# Altium footprint library Mechanical_Connectors_Terminal_Pluggable_Screw_3.81_Board_TH.PcbLib: 12 footprints
Each footprint in its own frame and in the unit in brackets; x right, y up, seen from the top. Pads: shape width x height; smd on the part's side, far side on the other; paste and mask are expansions set on the pad; w line width, h text height; cw(c..) or ccw(c..) is an arc to the next point about the centre after c.
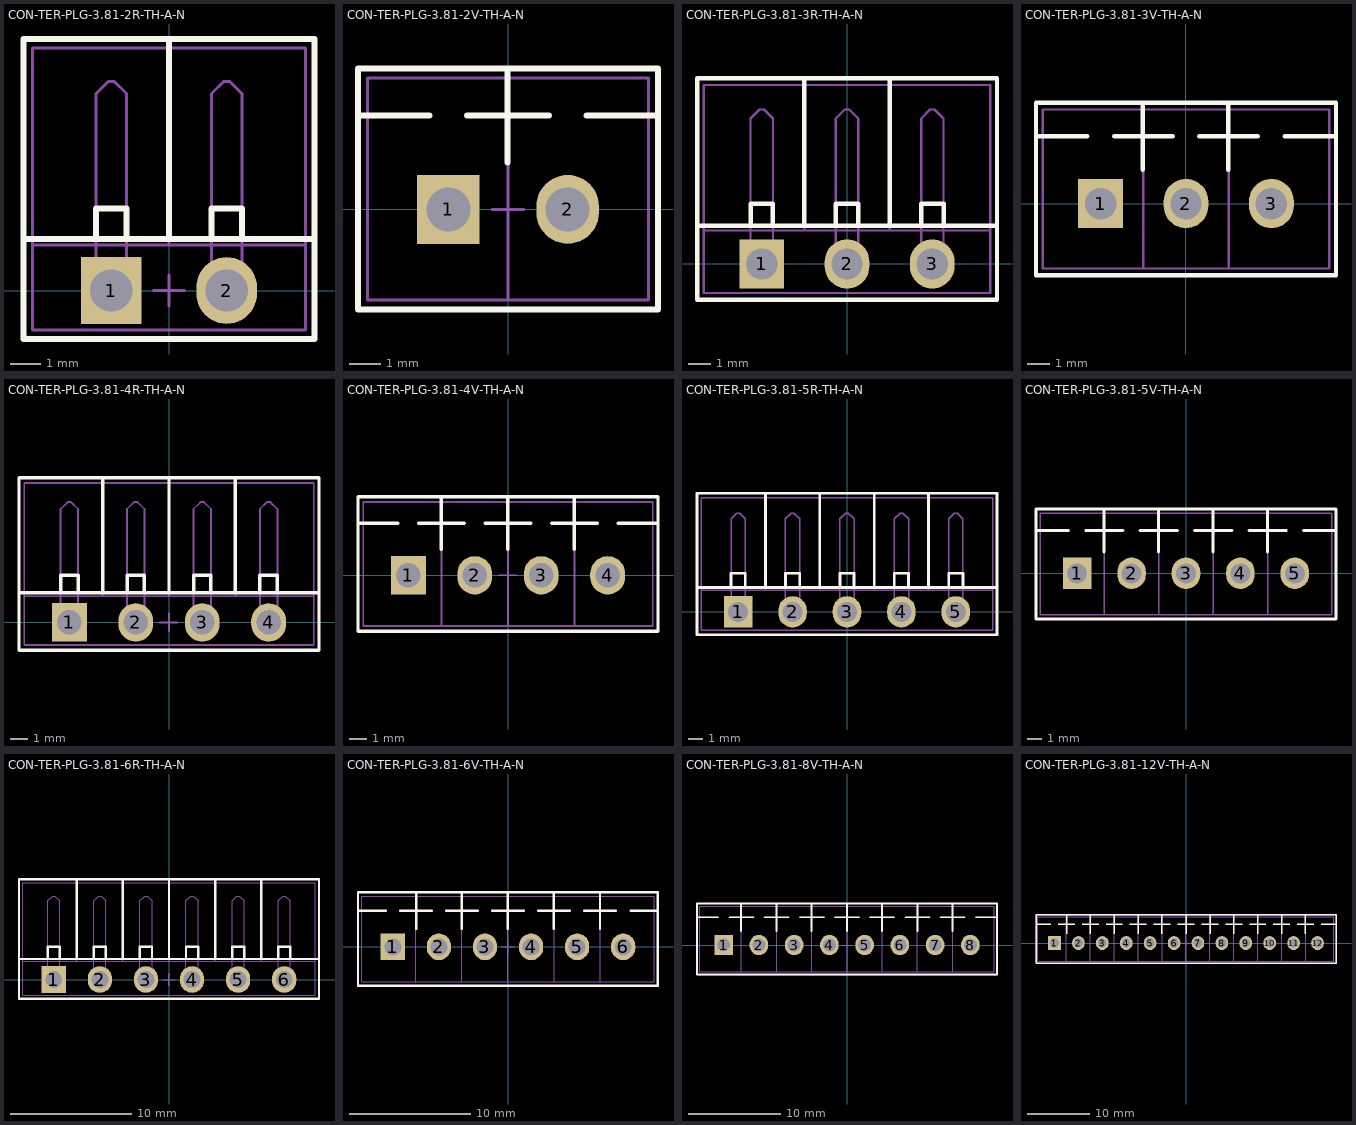
[diagram p0: the footprints below, top view; thin cyan lines are the x and y axes]

## CON-TER-PLG-3.81-2R-TH-A-N [mm]
height 8.15
pads (2):
  rect 2x2.2 hole 1.4: 1(-1.905,0)
  oval 2x2.2 hole 1.4: 2(1.905,0)
Top Overlay:
  lines w0.2: -4.8,1.7 4.8,1.7 ; -2.405,1.7 -2.405,2.7 -1.405,2.7 -1.405,1.7 ; 0,1.7 0,8.3 ; 1.405,1.7 1.405,2.7 2.405,2.7 2.405,1.7 ; -4.8,-1.6 -4.8,8.3 4.8,8.3 4.8,-1.6 -4.8,-1.6
Top Package:
  circle w0.1: c1.905,0 r0.5
  circle w0.1: c-1.905,0 r0.5
  lines w0.1: -4.5,1.5 4.5,1.5 ; -2.405,0 -2.405,6.5 -2.005,6.9 -1.805,6.9 -1.405,6.5 -1.405,0 ; 0,1.5 0,8 ; 1.405,0 1.405,6.5 1.805,6.9 2.005,6.9 2.405,6.5 2.405,0 ; -4.5,-1.3 4.5,-1.3 4.5,8 -4.5,8 -4.5,-1.3
Top Comment:
  text ".Comment" at -2.835,3.049 h2
Top Designator:
  text ".Designator" at -4.299,3.102 h2.5
Top Border:
  lines w0.1: -0.505,0 0.495,0 ; -0.005,-0.5 -0.005,0.5 ; -4.8,-1.6 -4.8,8.3 4.8,8.3 4.8,-1.6 -4.8,-1.6 ; -0.513,0 0.503,0 -0.513,0 ; -0.005,-0.508 -0.005,0.508 -0.005,-0.508
3D body "CON-TER-PLG-3.81-2R-TH-A-N.step": height 7.25, standoff -3.4, extent -4.505,-1.3 4.505,8

## CON-TER-PLG-3.81-2V-TH-A-N [mm]
height 8.15
pads (2):
  rect 2x2.2 hole 1.4: 1(-1.905,0)
  oval 2x2.2 hole 1.4: 2(1.905,0)
Top Overlay:
  lines w0.2: -4.79,3 -3.825,3 ; -1.305,3 -0.015,3 ; -0.015,1.5 -0.015,3 ; -0.015,4.5 -0.015,3 ; 0,3 1.305,3 ; 3.795,3 2.505,3 3.81,3 ; 3.825,3 4.79,3 ; -4.79,-3.2 4.79,-3.2 4.79,4.5 -4.79,4.5 -4.79,-3.2 ; -3.81,3 -2.505,3 -3.81,3
Top Package:
  circle w0.1: c-1.905,0 r0.5
  circle w0.1: c1.905,0 r0.5
  lines w0.1: -4.48,3 -2.63,3 ; -1.23,3 0,3 ; -0.02,3 1.18,3 ; 0,-2.9 0,4.2 ; 3.81,3 2.58,3 4.48,3 ; -2.63,3 -3.83,3 -2.63,3 ; -4.49,-2.9 -4.49,4.2 4.49,4.2 4.49,-2.9 -4.49,-2.9
Top Comment:
  text ".Comment" at -2.835,-2.836 h2
Top Designator:
  text ".Designator" at -4.299,-2.783 h2.5
Top Border:
  lines w0.1: -0.505,0 0.495,0 ; -0.005,-0.5 -0.005,0.5 ; -4.79,-3.2 4.79,-3.2 4.79,4.5 -4.79,4.5 -4.79,-3.2 ; -0.513,0 0.503,0 -0.513,0 ; -0.005,-0.508 -0.005,0.508 -0.005,-0.508
3D body "CON-TER-PLG-3.81-2V-TH-A-N.stp": height 9.2, standoff -3.4, extent -4.505,-2.95 4.505,4.3

## CON-TER-PLG-3.81-3R-TH-A-N [mm]
height 8.15
pads (3):
  rect 2x2.2 hole 1.4: 1(-3.81,0)
  oval 2x2.2 hole 1.4: 2(0,0) 3(3.81,0)
Top Overlay:
  lines w0.2: -6.705,1.7 6.7,1.7 ; -4.31,1.7 -4.31,2.7 -3.31,2.7 -3.31,1.7 ; -1.905,1.7 -1.905,8.3 ; -0.5,1.7 -0.5,2.7 0.5,2.7 0.5,1.7 ; 1.905,1.7 1.905,8.3 ; 3.31,1.7 3.31,2.7 4.31,2.7 4.31,1.7 ; -6.7,-1.6 6.7,-1.6 6.7,8.3 -6.7,8.3 -6.7,-1.6
Top Package:
  circle w0.1: c-3.81,0 r0.5
  circle w0.1: c0,0 r0.5
  circle w0.1: c3.81,0 r0.5
  lines w0.1: -6.405,1.5 6.4,1.5 ; -4.31,0 -4.31,6.5 -3.91,6.9 -3.71,6.9 -3.31,6.5 -3.31,0 ; -1.905,1.5 -1.905,8 ; -0.5,0 -0.5,6.5 -0.1,6.9 0.1,6.9 0.5,6.5 0.5,0 ; 1.905,1.5 1.905,8 ; 3.31,0 3.31,6.5 3.71,6.9 3.91,6.9 4.31,6.5 4.31,0 ; -6.4,-1.3 -6.4,8 6.4,8 6.4,-1.3 -6.4,-1.3
Top Comment:
  text ".Comment" at -2.835,3.049 h2
Top Designator:
  text ".Designator" at -4.299,3.102 h2.5
Top Border:
  lines w0.1: -0.5,0 0.5,0 ; 0,-0.5 0,0.5 ; -6.7,-1.6 6.7,-1.6 6.7,8.3 -6.7,8.3 -6.7,-1.6 ; -0.508,0 0.508,0 -0.508,0 ; 0,-0.508 0,0.508 0,-0.508
3D body "CON-TER-PLG-3.81-3R-TH-A-N.step": height 7.25, standoff -3.4, extent -6.41,-1.3 6.41,8

## CON-TER-PLG-3.81-3V-TH-A-N [mm]
height 8.15
pads (3):
  rect 2x2.2 hole 1.4: 1(-3.81,0)
  oval 2x2.2 hole 1.4: 2(0,0) 3(3.81,0)
Top Overlay:
  lines w0.2: -6.69,3 -5.73,3 ; -3.21,3 -1.92,3 ; -1.92,1.5 -1.92,3 ; -1.92,4.5 -1.92,3 ; -1.905,3 -0.6,3 ; 0.6,3 1.89,3 ; 1.89,1.5 1.89,3 ; 1.89,4.5 1.89,3 ; 1.905,3 3.21,3 ; 5.7,3 4.41,3 5.715,3 ; 5.73,3 6.69,3 ; -6.69,-3.2 6.69,-3.2 6.69,4.5 -6.69,4.5 -6.69,-3.2 ; -5.715,3 -4.41,3 -5.715,3
Top Package:
  circle w0.1: c-3.81,0 r0.5
  circle w0.1: c0,0 r0.5
  circle w0.1: c3.81,0 r0.5
  lines w0.1: -6.39,3 -4.535,3 -5.735,3 ; -3.135,3 -1.905,3 ; -1.925,3 -0.725,3 ; -1.905,-2.9 -1.905,4.2 ; 0.675,3 1.905,3 ; 1.885,3 3.085,3 ; 1.905,-2.9 1.905,4.2 ; 5.715,3 4.485,3 6.39,3 ; -6.39,-2.9 -6.39,4.2 6.39,4.2 6.39,-2.9 -6.39,-2.9
Top Comment:
  text ".Comment" at -2.835,-2.891 h2
Top Designator:
  text ".Designator" at -4.299,-2.838 h2.5
Top Border:
  lines w0.1: -0.5,0 0.5,0 ; 0,-0.5 0,0.5 ; -6.69,-3.2 -6.69,4.5 6.69,4.5 6.69,-3.2 -6.69,-3.2 ; -0.508,0 0.508,0 -0.508,0 ; 0,-0.508 0,0.508 0,-0.508
3D body "CON-TER-PLG-3.81-3V-TH-A-N.STEP": height 9.2, standoff -3.4, extent -6.41,-3 6.41,4.25

## CON-TER-PLG-3.81-4R-TH-A-N [mm]
height 8.15
pads (4):
  rect 2x2.2 hole 1.4: 1(-5.715,0)
  oval 2x2.2 hole 1.4: 2(-1.905,0) 3(1.905,0) 4(5.715,0)
Top Overlay:
  lines w0.2: -8.6,1.7 8.6,1.7 ; -6.215,1.7 -6.215,2.7 -5.215,2.7 -5.215,1.7 ; -3.81,1.7 -3.81,8.3 ; -2.405,1.7 -2.405,2.7 -1.405,2.7 -1.405,1.7 ; 0,1.7 0,8.3 ; 1.405,1.7 1.405,2.7 2.405,2.7 2.405,1.7 ; 3.81,1.7 3.81,8.3 ; 5.215,1.7 5.215,2.7 6.215,2.7 6.215,1.7 ; -8.6,-1.6 -8.6,8.3 8.6,8.3 8.6,-1.6 -8.6,-1.6
Top Package:
  circle w0.1: c-5.715,0 r0.5
  circle w0.1: c-1.905,0 r0.5
  circle w0.1: c1.905,0 r0.5
  circle w0.1: c5.715,0 r0.5
  lines w0.1: -8.31,1.5 8.3,1.5 ; -6.215,0 -6.215,6.5 -5.815,6.9 -5.615,6.9 -5.215,6.5 -5.215,0 ; -3.81,1.5 -3.81,8 ; -2.405,0 -2.405,6.5 -2.005,6.9 -1.805,6.9 -1.405,6.5 -1.405,0 ; 0,1.5 0,8 ; 1.405,0 1.405,6.5 1.805,6.9 2.005,6.9 2.405,6.5 2.405,0 ; 3.81,1.5 3.81,8 ; 5.215,0 5.215,6.5 5.615,6.9 5.815,6.9 6.215,6.5 6.215,0 ; -8.3,-1.3 8.3,-1.3 8.3,8 -8.3,8 -8.3,-1.3
Top Comment:
  text ".Comment" at -2.835,3.049 h2
Top Designator:
  text ".Designator" at -4.299,3.102 h2.5
Top Border:
  lines w0.1: -0.505,0 0.495,0 ; -0.005,-0.5 -0.005,0.5 ; -8.6,-1.6 -8.6,8.3 8.6,8.3 8.6,-1.6 -8.6,-1.6 ; -0.513,0 0.503,0 -0.513,0 ; -0.005,-0.508 -0.005,0.508 -0.005,-0.508
3D body "CON-TER-PLG-3.81-4R-TH-A-N.step": height 7.25, standoff -3.4, extent -8.315,-1.3 8.315,8

## CON-TER-PLG-3.81-4V-TH-A-N [mm]
height 8.15
pads (4):
  rect 2x2.2 hole 1.4: 1(-5.715,0)
  oval 2x2.2 hole 1.4: 2(-1.905,0) 3(1.905,0) 4(5.715,0)
Top Overlay:
  lines w0.2: -8.6,3 -7.635,3 ; -7.62,3 -6.315,3 ; -5.115,3 -3.825,3 ; -3.825,1.5 -3.825,3 ; -3.825,4.5 -3.825,3 ; -3.81,3 -2.505,3 ; -1.305,3 -0.015,3 ; -0.015,1.5 -0.015,3 ; -0.015,4.5 -0.015,3 ; 0,3 1.305,3 ; 2.505,3 3.795,3 ; 3.795,1.5 3.795,3 ; 3.795,4.5 3.795,3 ; 3.81,3 5.115,3 ; 6.315,3 7.62,3 ; 7.635,3 8.6,3 ; -8.6,-3.2 -8.6,4.5 8.6,4.5 8.6,-3.2 -8.6,-3.2
Top Package:
  circle w0.1: c-5.715,0 r0.5
  circle w0.1: c-1.905,0 r0.5
  circle w0.1: c5.715,0 r0.5
  circle w0.1: c1.905,0 r0.5
  lines w0.1: -8.29,3 -6.44,3 ; -5.04,3 -3.81,3 ; -3.81,-2.9 -3.81,4.2 ; -1.23,3 0,3 ; -0.02,3 1.18,3 ; 0,-2.9 0,4.2 ; 2.58,3 3.81,3 ; 3.79,3 4.99,3 ; 3.81,-2.9 3.81,4.2 ; 6.39,3 8.29,3 ; -8.3,-2.9 8.3,-2.9 8.3,4.2 -8.3,4.2 -8.3,-2.9 ; -3.83,3 -2.63,3 -3.83,3
Top Comment:
  text ".Comment" at -2.835,-2.836 h2
Top Designator:
  text ".Designator" at -4.299,-2.783 h2.5
Top Border:
  lines w0.1: -0.505,0 0.495,0 ; -0.005,-0.5 -0.005,0.5 ; -8.6,-3.2 -8.6,4.5 8.6,4.5 8.6,-3.2 -8.6,-3.2 ; -0.513,0 0.503,0 -0.513,0 ; -0.005,-0.508 -0.005,0.508 -0.005,-0.508
3D body "CON-TER-PLG-3.81-4V-TH-A-N.STEP": height 9.2, standoff -3.4, extent -8.315,-2.95 8.315,4.3

## CON-TER-PLG-3.81-5R-TH-A-N [mm]
height 8.15
pads (5):
  rect 2x2.2 hole 1.4: 1(-7.62,0)
  oval 2x2.2 hole 1.4: 2(-3.81,0) 3(0,0) 4(3.81,0) 5(7.62,0)
Top Overlay:
  lines w0.2: -10.5,1.7 10.5,1.7 ; -8.12,1.7 -8.12,2.7 -7.12,2.7 -7.12,1.7 ; -5.715,1.7 -5.715,8.3 ; -4.31,1.7 -4.31,2.7 -3.31,2.7 -3.31,1.7 ; -1.905,1.7 -1.905,8.3 ; -0.5,1.7 -0.5,2.7 0.5,2.7 0.5,1.7 ; 1.905,1.7 1.905,8.3 ; 3.31,1.7 3.31,2.7 4.31,2.7 4.31,1.7 ; 5.715,1.7 5.715,8.3 ; 7.12,1.7 7.12,2.7 8.12,2.7 8.12,1.7 ; -10.5,-1.6 10.5,-1.6 10.5,8.3 -10.5,8.3 -10.5,-1.6
Top Package:
  circle w0.1: c7.62,0 r0.5
  circle w0.1: c3.81,0 r0.5
  circle w0.1: c0,0 r0.5
  circle w0.1: c-3.81,0 r0.5
  circle w0.1: c-7.62,0 r0.5
  lines w0.1: -10.2,1.5 10.2,1.5 ; -8.12,0 -8.12,6.5 -7.72,6.9 -7.52,6.9 -7.12,6.5 -7.12,0 ; -5.715,1.5 -5.715,8 ; -4.31,0 -4.31,6.5 -3.91,6.9 -3.71,6.9 -3.31,6.5 -3.31,0 ; -1.905,1.5 -1.905,8 ; -0.5,0 -0.5,6.5 -0.1,6.9 0.1,6.9 0.5,6.5 0.5,0 ; 1.905,1.5 1.905,8 ; 3.31,0 3.31,6.5 3.71,6.9 3.91,6.9 4.31,6.5 4.31,0 ; 5.715,1.5 5.715,8 ; 7.12,0 7.12,6.5 7.52,6.9 7.72,6.9 8.12,6.5 8.12,0 ; -10.2,-1.3 -10.2,8 10.2,8 10.2,-1.3 -10.2,-1.3
Top Comment:
  text ".Comment" at -2.835,3.049 h2
Top Designator:
  text ".Designator" at -4.299,3.102 h2.5
Top Border:
  lines w0.1: -0.5,0 0.5,0 ; 0,-0.5 0,0.5 ; -10.5,-1.6 10.5,-1.6 10.5,8.3 -10.5,8.3 -10.5,-1.6 ; -0.508,0 0.508,0 -0.508,0 ; 0,-0.508 0,0.508 0,-0.508
3D body "CON-TER-PLG-3.81-5R-TH-A-N.step": height 7.25, standoff -3.4, extent -10.22,-1.3 10.22,8

## CON-TER-PLG-3.81-5V-TH-A-N [mm]
height 8.15
pads (5):
  rect 2x2.2 hole 1.4: 1(-7.62,0)
  oval 2x2.2 hole 1.4: 2(-3.81,0) 3(0,0) 4(3.81,0) 5(7.62,0)
Top Overlay:
  lines w0.2: -10.5,3 -9.54,3 ; -9.525,3 -8.22,3 ; -7.02,3 -5.73,3 ; -5.73,1.5 -5.73,3 ; -5.73,4.5 -5.73,3 ; -5.715,3 -4.41,3 ; -3.21,3 -1.92,3 ; -1.92,1.5 -1.92,3 ; -1.92,4.5 -1.92,3 ; -1.905,3 -0.6,3 ; 0.6,3 1.89,3 ; 1.89,1.5 1.89,3 ; 1.89,4.5 1.89,3 ; 1.905,3 3.21,3 ; 4.41,3 5.7,3 ; 5.7,1.5 5.7,3 ; 5.7,4.5 5.7,3 ; 5.715,3 7.02,3 ; 8.22,3 9.525,3 ; 9.54,3 10.5,3 ; -10.5,-3.2 10.5,-3.2 10.5,4.5 -10.5,4.5 -10.5,-3.2
Top Package:
  circle w0.1: c7.62,0 r0.5
  circle w0.1: c3.81,0 r0.5
  circle w0.1: c0,0 r0.5
  circle w0.1: c-3.81,0 r0.5
  circle w0.1: c-7.62,0 r0.5
  lines w0.1: -10.2,3 -8.345,3 ; -6.945,3 -5.715,3 ; -5.735,3 -4.535,3 ; -5.715,-2.9 -5.715,4.2 ; -3.135,3 -1.905,3 ; -1.925,3 -0.725,3 ; -1.905,-2.9 -1.905,4.2 ; 0.675,3 1.905,3 ; 1.885,3 3.085,3 ; 1.905,-2.9 1.905,4.2 ; 4.485,3 5.715,3 ; 5.695,3 6.895,3 ; 5.715,-2.9 5.715,4.2 ; 8.295,3 10.2,3 ; -10.2,-2.9 10.2,-2.9 10.2,4.2 -10.2,4.2 -10.2,-2.9
Top Comment:
  text ".Comment" at -2.835,-2.891 h2
Top Designator:
  text ".Designator" at -4.299,-2.838 h2.5
Top Border:
  lines w0.1: -0.5,0 0.5,0 ; 0,-0.5 0,0.5 ; -10.5,-3.2 10.5,-3.2 10.5,4.5 -10.5,4.5 -10.5,-3.2 ; -0.508,0 0.508,0 -0.508,0 ; 0,-0.508 0,0.508 0,-0.508
3D body "CON-TER-PLG-3.81-5V-TH-A-N.stp": height 9.2, standoff -3.4, extent -10.22,-2.95 10.22,4.3

## CON-TER-PLG-3.81-6R-TH-A-N [mm]
height 8.15
pads (6):
  rect 2x2.2 hole 1.4: 1(-9.525,0)
  oval 2x2.2 hole 1.4: 2(-5.715,0) 3(-1.905,0) 4(1.905,0) 5(5.715,0) 6(9.525,0)
Top Overlay:
  lines w0.2: -12.4,1.7 12.4,1.7 ; -10.025,1.7 -10.025,2.7 -9.025,2.7 -9.025,1.7 ; -7.62,1.7 -7.62,8.3 ; -6.215,1.7 -6.215,2.7 -5.215,2.7 -5.215,1.7 ; -3.81,1.7 -3.81,8.3 ; -2.405,1.7 -2.405,2.7 -1.405,2.7 -1.405,1.7 ; 0,1.7 0,8.3 ; 1.405,1.7 1.405,2.7 2.405,2.7 2.405,1.7 ; 3.81,1.7 3.81,8.3 ; 5.215,1.7 5.215,2.7 6.215,2.7 6.215,1.7 ; 7.62,1.7 7.62,8.3 ; 9.025,1.7 9.025,2.7 10.025,2.7 10.025,1.7 ; -12.4,-1.6 -12.4,8.3 12.4,8.3 12.4,-1.6 -12.4,-1.6
Top Package:
  circle w0.1: c9.525,0 r0.5
  circle w0.1: c5.715,0 r0.5
  circle w0.1: c1.905,0 r0.5
  circle w0.1: c-1.905,0 r0.5
  circle w0.1: c-5.715,0 r0.5
  circle w0.1: c-9.525,0 r0.5
  lines w0.1: -12.1,1.5 12.1,1.5 ; -10.025,0 -10.025,6.5 -9.625,6.9 -9.425,6.9 -9.025,6.5 -9.025,0 ; -7.62,1.5 -7.62,8 ; -6.215,0 -6.215,6.5 -5.815,6.9 -5.615,6.9 -5.215,6.5 -5.215,0 ; -3.81,1.5 -3.81,8 ; -2.405,0 -2.405,6.5 -2.005,6.9 -1.805,6.9 -1.405,6.5 -1.405,0 ; 0,1.5 0,8 ; 1.405,0 1.405,6.5 1.805,6.9 2.005,6.9 2.405,6.5 2.405,0 ; 3.81,1.5 3.81,8 ; 5.215,0 5.215,6.5 5.615,6.9 5.815,6.9 6.215,6.5 6.215,0 ; 7.62,1.5 7.62,8 ; 9.025,0 9.025,6.5 9.425,6.9 9.625,6.9 10.025,6.5 10.025,0 ; -12.1,-1.3 12.1,-1.3 12.1,8 -12.1,8 -12.1,-1.3
Top Comment:
  text ".Comment" at -2.835,3.049 h2
Top Designator:
  text ".Designator" at -4.299,3.102 h2.5
Top Border:
  lines w0.1: -0.5,0 0.5,0 ; 0,-0.5 0,0.5 ; -12.4,-1.6 -12.4,8.3 12.4,8.3 12.4,-1.6 -12.4,-1.6 ; -0.508,0 0.508,0 -0.508,0 ; 0,-0.508 0,0.508 0,-0.508
3D body "CON-TER-PLG-3.81-6R-TH-A-N.step": height 7.25, standoff -3.4, extent -12.125,-1.3 12.125,8

## CON-TER-PLG-3.81-6V-TH-A-N [mm]
height 8.15
pads (6):
  rect 2x2.2 hole 1.4: 1(-9.525,0)
  oval 2x2.2 hole 1.4: 2(-5.715,0) 3(-1.905,0) 4(1.905,0) 5(5.715,0) 6(9.525,0)
Top Overlay:
  lines w0.2: -12.4,3 -11.445,3 ; -11.43,3 -10.125,3 ; -8.925,3 -7.62,3 ; -7.605,1.5 -7.605,3 ; -7.605,4.5 -7.605,3 ; -6.315,3 -7.605,3 ; -5.115,3 -3.825,3 ; -3.825,1.5 -3.825,3 ; -3.825,4.5 -3.825,3 ; -3.81,3 -2.505,3 ; -1.305,3 -0.015,3 ; -0.015,1.5 -0.015,3 ; -0.015,4.5 -0.015,3 ; 0,3 1.305,3 ; 2.505,3 3.795,3 ; 3.795,1.5 3.795,3 ; 3.795,4.5 3.795,3 ; 3.81,3 5.115,3 ; 6.315,3 7.605,3 ; 7.605,1.5 7.605,3 ; 7.605,4.5 7.605,3 ; 7.62,3 8.925,3 ; 10.125,3 11.43,3 ; 11.445,3 12.4,3 ; -12.405,-3.2 -12.405,4.5 12.395,4.5 12.395,-3.2 -12.405,-3.2
Top Package:
  circle w0.1: c-9.53,0 r0.5
  circle w0.1: c-5.72,0 r0.5
  circle w0.1: c-1.91,0 r0.5
  circle w0.1: c1.9,0 r0.5
  circle w0.1: c5.71,0 r0.5
  circle w0.1: c9.52,0 r0.5
  lines w0.1: -12.105,3 -10.255,3 ; -8.855,3 -7.625,3 ; -7.645,3 -6.445,3 ; -7.625,-2.9 -7.625,4.2 ; -5.045,3 -3.815,3 ; -3.835,3 -2.635,3 ; -3.815,-2.9 -3.815,4.2 ; -1.235,3 -0.005,3 ; -0.025,3 1.175,3 ; -0.005,-2.9 -0.005,4.2 ; 2.575,3 3.805,3 ; 3.785,3 4.985,3 ; 3.805,-2.9 3.805,4.2 ; 6.385,3 7.615,3 ; 7.595,3 8.795,3 ; 7.615,-2.9 7.615,4.2 ; 10.195,3 12.095,3 ; -12.105,-2.9 -12.105,4.2 12.095,4.2 12.095,-2.9 -12.105,-2.9
Top Comment:
  text ".Comment" at -2.835,-2.891 h2
Top Designator:
  text ".Designator" at -4.299,-2.838 h2.5
Top Border:
  lines w0.1: -0.5,0 0.5,0 ; 0,-0.5 0,0.5 ; -12.405,-3.2 12.395,-3.2 12.395,4.5 -12.405,4.5 -12.405,-3.2 ; -0.508,0 0.508,0 -0.508,0 ; 0,-0.508 0,0.508 0,-0.508
3D body "CON-TER-PLG-3.81-6V-TH-A-N.STEP": height 9.2, standoff -3.4, extent -12.13,-2.95 12.12,4.3

## CON-TER-PLG-3.81-8V-TH-A-N [mm]
height 8.15
pads (8):
  rect 2x2.2 hole 1.4: 1(-13.335,0)
  oval 2x2.2 hole 1.4: 2(-9.525,0) 3(-5.715,0) 4(-1.905,0) 5(1.905,0) 6(5.715,0) 7(9.525,0) 8(13.335,0)
Top Overlay:
  lines w0.2: -16.22,3 -15.255,3 ; -15.24,3 -13.935,3 ; -12.735,3 -11.445,3 ; -11.445,1.5 -11.445,3 ; -11.445,4.5 -11.445,3 ; -11.43,3 -10.125,3 ; -8.925,3 -7.635,3 ; -7.635,1.5 -7.635,3 ; -7.635,4.5 -7.635,3 ; -7.62,3 -6.315,3 ; -5.115,3 -3.825,3 ; -3.825,1.5 -3.825,3 ; -3.825,4.5 -3.825,3 ; -3.81,3 -2.505,3 ; -1.305,3 0,3 1.305,3 ; -0.98,-3.2 16.22,-3.2 16.22,4.5 -0.98,4.5 ; -0.98,3 -0.015,3 ; -0.015,1.5 -0.015,3 ; -0.015,4.5 -0.015,3 ; 0.015,3 0.98,3 ; 0.98,-3.2 -16.22,-3.2 -16.22,4.5 0.98,4.5 ; 2.505,3 3.795,3 ; 3.795,1.5 3.795,3 ; 3.795,4.5 3.795,3 ; 3.81,3 5.115,3 ; 6.315,3 7.605,3 ; 7.605,1.5 7.605,3 ; 7.605,4.5 7.605,3 ; 7.62,3 8.925,3 ; 10.125,3 11.415,3 ; 11.415,1.5 11.415,3 ; 11.415,4.5 11.415,3 ; 11.43,3 12.735,3 ; 13.935,3 15.24,3 ; 15.255,3 16.22,3
Top Package:
  circle w0.1: c1.905,0 r0.5
  circle w0.1: c5.715,0 r0.5
  circle w0.1: c13.335,0 r0.5
  circle w0.1: c9.525,0 r0.5
  circle w0.1: c-13.335,0 r0.5
  circle w0.1: c-9.525,0 r0.5
  circle w0.1: c-1.905,0 r0.5
  circle w0.1: c-5.715,0 r0.5
  lines w0.1: -15.91,3 -14.06,3 ; -12.66,3 -11.43,3 ; -11.43,-2.9 -11.43,4.2 ; -8.85,3 -7.62,3 ; -7.64,3 -6.44,3 ; -7.62,-2.9 -7.62,4.2 ; -5.04,3 -3.81,3 ; -3.83,3 -2.63,3 ; -3.81,-2.9 -3.81,4.2 ; -1.23,3 0.67,3 ; -0.68,-2.9 15.92,-2.9 15.92,4.2 -0.68,4.2 ; -0.67,3 1.18,3 ; 0,-2.9 0,4.2 ; 0.68,-2.9 -15.92,-2.9 -15.92,4.2 0.68,4.2 ; 2.58,3 3.81,3 ; 3.81,-2.9 3.81,4.2 ; 6.39,3 7.62,3 ; 7.6,3 8.8,3 ; 7.62,-2.9 7.62,4.2 ; 10.2,3 11.43,3 ; 11.41,3 12.61,3 ; 11.43,-2.9 11.43,4.2 ; 14.01,3 15.91,3 ; -11.45,3 -10.25,3 -11.45,3 ; 3.79,3 4.99,3 3.79,3
Top Comment:
  text ".Comment" at -2.835,-2.836 h2
Top Designator:
  text ".Designator" at -4.299,-2.783 h2.5
Top Border:
  lines w0.1: -0.98,-3.2 16.22,-3.2 16.22,4.5 -0.98,4.5 ; -0.508,0 0.508,0 ; 0,-0.508 0,0.508 ; 0.98,-3.2 -16.22,-3.2 -16.22,4.5 0.98,4.5
3D body "CON-TER-PLG-3.81-8V-TH-A-N.STEP.stp": height 9.2, standoff -3.4, extent -15.635,-2.94 15.635,4.3

## CON-TER-PLG-3.81-12V-TH-A-N [mm]
height 8.15
pads (12):
  rect 2x2.2 hole 1.4: 1(-20.955,0)
  oval 2x2.2 hole 1.4: 2(-17.145,0) 3(-13.335,0) 4(-9.525,0) 5(-5.715,0) 6(-1.905,0) 7(1.905,0) 8(5.715,0) 9(9.525,0) 10(13.335,0) 11(17.145,0) 12(20.955,0)
Top Overlay:
  lines w0.2: -23.83,3 -22.875,3 ; -22.86,3 -21.555,3 ; -20.355,3 -19.05,3 ; -19.035,1.5 -19.035,3 ; -19.035,4.5 -19.035,3 ; -17.745,3 -19.035,3 ; -16.545,3 -15.255,3 ; -15.255,1.5 -15.255,3 ; -15.255,4.5 -15.255,3 ; -15.24,3 -13.935,3 ; -12.735,3 -11.445,3 ; -11.445,1.5 -11.445,3 ; -11.445,4.5 -11.445,3 ; -11.43,3 -10.125,3 ; -8.925,3 -7.635,3 ; -7.635,1.5 -7.635,3 ; -7.635,4.5 -7.635,3 ; -7.62,3 -6.315,3 ; -5.115,3 -3.825,3 ; -3.825,1.5 -3.825,3 ; -3.825,4.5 -3.825,3 ; -3.81,3 -2.505,3 ; -1.305,3 0,3 ; -0.975,-3.2 23.9,-3.2 23.9,4.5 -0.975,4.5 ; 0.015,1.5 0.015,3 ; 0.015,4.5 0.015,3 ; 0.965,-3.2 -23.9,-3.2 -23.9,4.5 0.965,4.5 ; 1.305,3 0.015,3 ; 2.505,3 3.81,3 ; 3.825,1.5 3.825,3 ; 3.825,4.5 3.825,3 ; 5.115,3 3.825,3 ; 6.315,3 7.605,3 ; 7.605,1.5 7.605,3 ; 7.605,4.5 7.605,3 ; 7.62,3 8.925,3 ; 10.125,3 11.415,3 ; 11.415,1.5 11.415,3 ; 11.415,4.5 11.415,3 ; 11.43,3 12.735,3 ; 13.935,3 15.225,3 ; 15.225,1.5 15.225,3 ; 15.225,4.5 15.225,3 ; 15.24,3 16.545,3 ; 17.745,3 19.035,3 ; 19.035,1.5 19.035,3 ; 19.035,4.5 19.035,3 ; 19.05,3 20.355,3 ; 21.555,3 22.86,3 ; 22.875,3 23.83,3
Top Package:
  circle w0.1: c-1.91,0 r0.5
  circle w0.1: c-5.72,0 r0.5
  circle w0.1: c-9.53,0 r0.5
  circle w0.1: c-13.34,0 r0.5
  circle w0.1: c-17.15,0 r0.5
  circle w0.1: c-20.96,0 r0.5
  circle w0.1: c20.95,0 r0.5
  circle w0.1: c17.14,0 r0.5
  circle w0.1: c13.33,0 r0.5
  circle w0.1: c9.52,0 r0.5
  circle w0.1: c5.71,0 r0.5
  circle w0.1: c1.9,0 r0.5
  lines w0.1: -23.535,3 -21.685,3 ; -20.285,3 -19.055,3 ; -19.075,3 -17.875,3 ; -19.055,-2.9 -19.055,4.2 ; -16.475,3 -15.245,3 ; -15.265,3 -14.065,3 ; -15.245,-2.9 -15.245,4.2 ; -12.665,3 -11.435,3 ; -11.455,3 -10.255,3 ; -11.435,-2.9 -11.435,4.2 ; -8.855,3 -7.625,3 ; -7.645,3 -6.445,3 ; -7.625,-2.9 -7.625,4.2 ; -5.045,3 -3.815,3 ; -3.835,3 -2.635,3 ; -3.815,-2.9 -3.815,4.2 ; -0.675,-2.9 23.525,-2.9 23.525,4.2 -0.675,4.2 ; -0.675,3 1.175,3 -0.025,3 ; -0.005,-2.9 -0.005,4.2 ; -0.005,3 -1.235,3 0.665,3 ; 0.665,-2.9 -23.6,-2.9 -23.6,4.2 0.665,4.2 ; 2.575,3 3.805,3 ; 3.785,3 4.985,3 ; 3.805,-2.9 3.805,4.2 ; 6.385,3 7.615,3 ; 7.595,3 8.795,3 ; 7.615,-2.9 7.615,4.2 ; 10.195,3 11.425,3 ; 11.405,3 12.605,3 ; 11.425,-2.9 11.425,4.2 ; 14.005,3 15.235,3 ; 15.215,3 16.415,3 ; 15.235,-2.9 15.235,4.2 ; 17.815,3 19.045,3 ; 19.025,3 20.225,3 ; 19.045,-2.9 19.045,4.2 ; 21.625,3 23.525,3
Top Comment:
  text ".Comment" at -2.835,-2.891 h2
Top Designator:
  text ".Designator" at -4.299,-2.838 h2.5
Top Border:
  lines w0.1: -0.975,-3.2 23.9,-3.2 23.9,4.5 -0.975,4.5 ; -0.508,0 0.508,0 ; 0,-0.508 0,0.508 ; 0.965,-3.2 -23.9,-3.2 -23.9,4.5 0.965,4.5
3D body "CON-TER-PLG-3.81-12V-TH-A-N.STEP.stp": height 9.2, standoff -3.4, extent -23.355,-3 23.155,4.24